# Altium footprint library Conn_Hirose_Electric_DM3AT-SF-PEJM5_eec_0.PcbLib: 1 footprints
Each footprint in its own frame and in the unit in brackets; x right, y up, seen from the top. Pads: shape width x height; smd on the part's side, far side on the other; paste and mask are expansions set on the pad; w line width, h text height; cw(c..) or ccw(c..) is an arc to the next point about the centre after c.
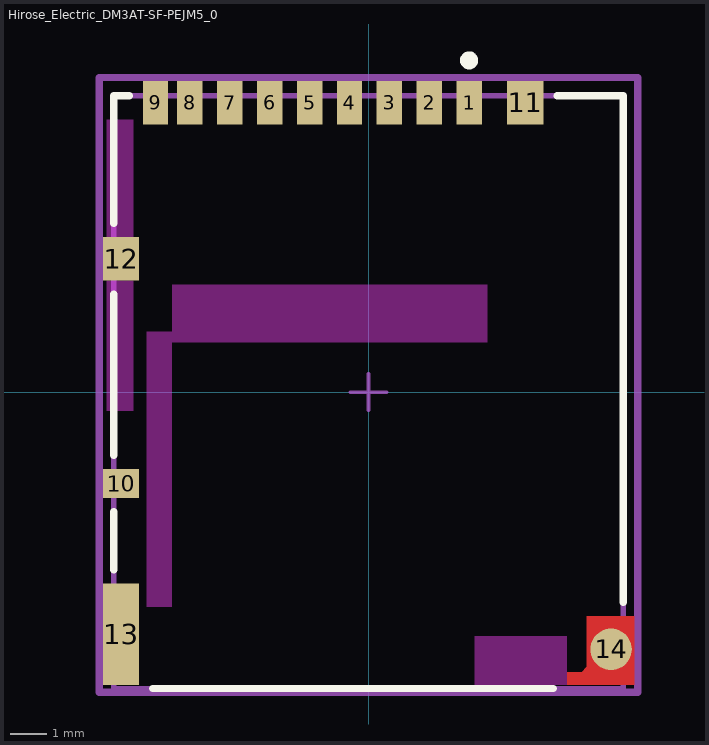
[diagram p0: the footprint, top view; thin cyan lines are the x and y axes]

## Hirose_Electric_DM3AT-SF-PEJM5_0 [mm]
pads (14):
  rect 0.7x1.2 smd paste+0 mask+0: 1(2.775,7.975) 2(1.675,7.975) 3(0.575,7.975) 4(-0.525,7.975) 5(-1.625,7.975) 6(-2.725,7.975) 7(-3.825,7.975) 8(-4.925,7.975) 9(-5.875,7.975)
  rect 1x0.8 smd paste+0 mask+0: 10(-6.825,-2.525)
  rect 1x1.2 smd paste+0 mask+0: 11(4.325,7.975) 12(-6.825,3.675)
  rect 1x2.8 smd paste+0 mask+0: 13(-6.825,-6.675)
  round 1.145 smd paste+0 mask+0: 14(6.689,-7.092)
Top Layer:
  region: 6.025,-6.175 7.325,-6.175 7.325,-8.075 5.475,-8.075 5.475,-7.725 5.875,-7.725 6.025,-7.575
Top Overlay:
  circle w0.25: c2.775,9.15 r0.125
  lines w0.2: -7.025,-4.9 -7.025,-3.3 ; -7.025,-1.75 -7.025,2.7 ; -7.025,4.65 -7.025,8.175 -6.6,8.175 ; -5.95,-8.175 5.1,-8.175 ; 5.2,8.175 7.025,8.175 7.025,-5.8
Keep-Out Layer:
  rectangle: -7.225,4.275 -6.475,7.525
  rectangle: -7.225,-0.525 -6.475,3.075
  rectangle: -6.125,-5.925 -5.425,1.675
  rectangle: -5.425,1.375 3.275,2.975
  rectangle: 2.925,-8.075 5.475,-6.725
Mechanical 10:
  lines w0.2: -7.425,-8.275 7.425,-8.275 7.425,8.675 -7.425,8.675 -7.425,-8.275
  text ".Designator" at 0,0.2 h1
Mechanical 12:
  lines w0.15: -7.025,-8.175 7.025,-8.175 7.025,8.175 -7.025,8.175 -7.025,-8.175
Mechanical 15:
  lines w0.1: -0.5,0 0.5,0 ; 0,-0.5 0,0.5
  lines w0.2: -7.425,-8.275 7.425,-8.275 7.425,8.675 -7.425,8.675 -7.425,-8.275
3D body "Conn_Hirose_Electric_DM3AT-SF-PEJM5_eec.STEP": height 0.25, standoff 0, extent -7.425,-8.275 7.425,8.675